# EAGLE library part ADS1246IPWR (library ADS1246IPWR)
24-Bit, 2kSPS, 1-Ch Delta-Sigma ADC With PGA for Precision Sensor Measurement Source: Datasheet <http://www.ti.com/lit/gpn/ADS1246>
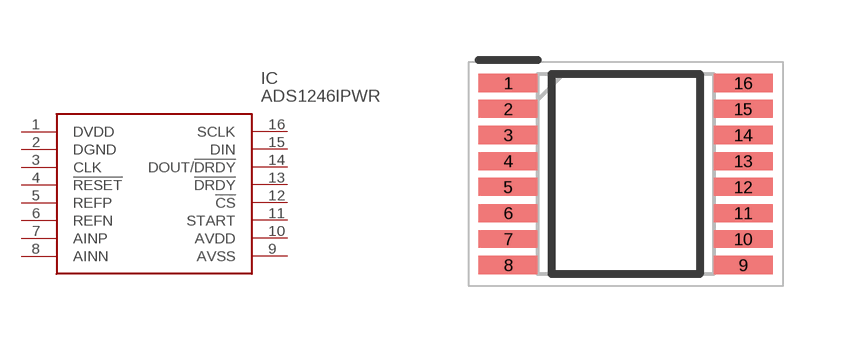
[diagram p0: symbol with the pads of SOP65P640X120-16N; footprint SOP65P640X120-16N]

Designator prefix IC

## ADS1246IPWR (Arrow_Part_Number: ADS1246IPWR; Arrow_Price-Stock: https://www.arrow.com/en/products/ads1246ipwr/texas-instruments?region=nac; Description: 24-Bit, 2kSPS, 1-Ch Delta-Sigma ADC With PGA for Precision Sensor Measurement; Height: 1.2mm; Manufacturer_Name: Texas Instruments; Manufacturer_Part_Number: ADS1246IPWR; Mouser_Part_Number: 595-ADS1246IPWR; Mouser_Price-Stock: https://www.mouser.co.uk/ProductDetail/Texas-Instruments/ADS1246IPWR?qs=XGzIaZb%2FFYJewvAb0%2FxFDA%3D%3D)  [SOP65P640X120-16N]
1  DVDD
2  DGND
3  CLK
4  !RESET
5  REFP
6  REFN
7  AINP
8  AINN
9  AVSS
10  AVDD
11  START
12  !CS
13  !DRDY
14  DOUT/!DRDY
15  DIN
16  SCLK

## Footprint SOP65P640X120-16N (pad centres in mm)
PW0016A
smd 1.475 x 0.45: 1 -2.938,2.275; 2 -2.938,1.625; 3 -2.938,0.975; 4 -2.938,0.325; 5 -2.938,-0.325; 6 -2.938,-0.975; 7 -2.938,-1.625; 8 -2.938,-2.275; 9 2.938,-2.275; 10 2.938,-1.625; 11 2.938,-0.975; 12 2.938,-0.325; 13 2.938,0.325; 14 2.938,0.975; 15 2.938,1.625; 16 2.938,2.275